# EAGLE library part GG (library 2010.09.20)
Game Gear Card Edge (WIP) based on information taken from SMSpower.org µ2011.01.13 D.LueChoy
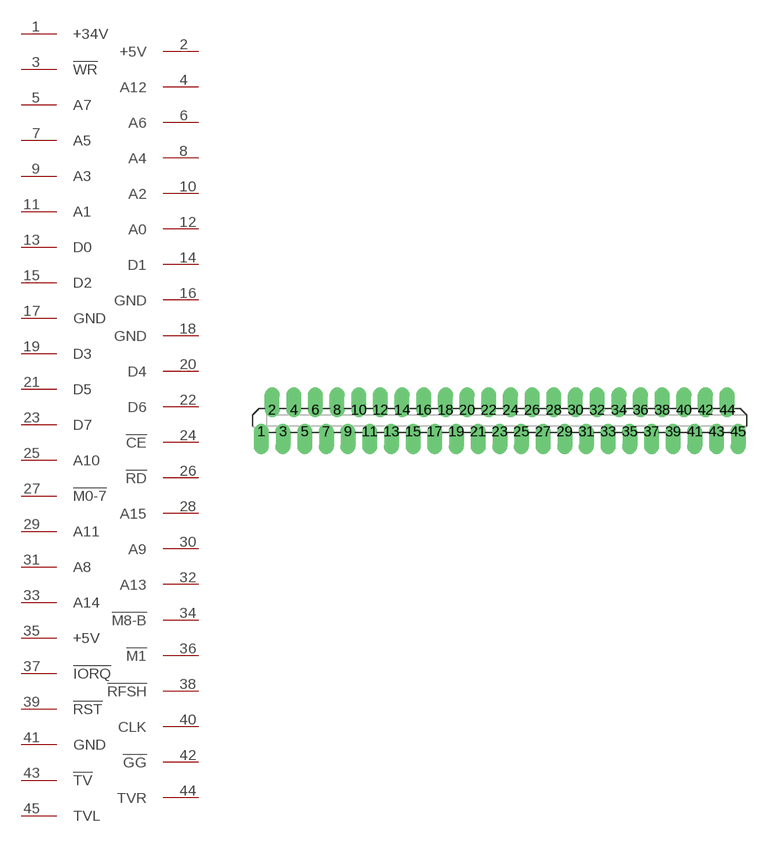
[diagram p7: symbol with the pads of ZIP45; footprint ZIP45]

Designator prefix -

## GG  [ZIP45]
1  +34V
2  +5V
3  !WR
4  A12
5  A7
6  A6
7  A5
8  A4
9  A3
10  A2
11  A1
12  A0
13  D0
14  D1
15  D2
16  GND
17  GND
18  GND
19  D3
20  D4
21  D5
22  D6
23  D7
24  !CE
25  A10
26  !RD
27  !M0-7
28  A15
29  A11
30  A9
31  A8
32  A13
33  A14
34  !M8-B
35  +5V
36  !M1
37  !IORQ
38  !RFSH
39  !RST
40  CLK
41  GND
42  !GG
43  !TV
44  TVR
45  TVL

## Footprint ZIP45 (pad centres in mm)
Single In Line Socket Modified to resemble the Game Gear cardedge connector. The pads would ideally be 0.2" long, and not have holes. When the pin spacings have been confirmed this will be redrawn using named polygons. Drawn by D Lue Choy µ 2010.09.21
drill 0.5 pad 1.778 offset: 1 -27.94,-1.27; 2 -26.67,1.27; 3 -25.4,-1.27; 4 -24.13,1.27; 5 -22.86,-1.27; 6 -21.59,1.27; 7 -20.32,-1.27; 8 -19.05,1.27; 9 -17.78,-1.27; 10 -16.51,1.27; 11 -15.24,-1.27; 12 -13.97,1.27; 13 -12.7,-1.27; 14 -11.43,1.27; 15 -10.16,-1.27; 16 -8.89,1.27; 17 -7.62,-1.27; 18 -6.35,1.27; 19 -5.08,-1.27; 20 -3.81,1.27; 21 -2.54,-1.27; 22 -1.27,1.27; 23 0,-1.27; 24 1.27,1.27; 25 2.54,-1.27; 26 3.81,1.27; 27 5.08,-1.27; 28 6.35,1.27; 29 7.62,-1.27; 30 8.89,1.27; 31 10.16,-1.27; 32 11.43,1.27; 33 12.7,-1.27; 34 13.97,1.27; 35 15.24,-1.27; 36 16.51,1.27; 37 17.78,-1.27; 38 19.05,1.27; 39 20.32,-1.27; 40 21.59,1.27; 41 22.86,-1.27; 42 24.13,1.27; 43 25.4,-1.27; 44 26.67,1.27; 45 27.94,-1.27